# Altium footprint library SRR1260-120M.PcbLib: 1 footprints
Each footprint in its own frame and in the unit in brackets; x right, y up, seen from the top. Pads: shape width x height; smd on the part's side, far side on the other; paste and mask are expansions set on the pad; w line width, h text height; cw(c..) or ccw(c..) is an arc to the next point about the centre after c.
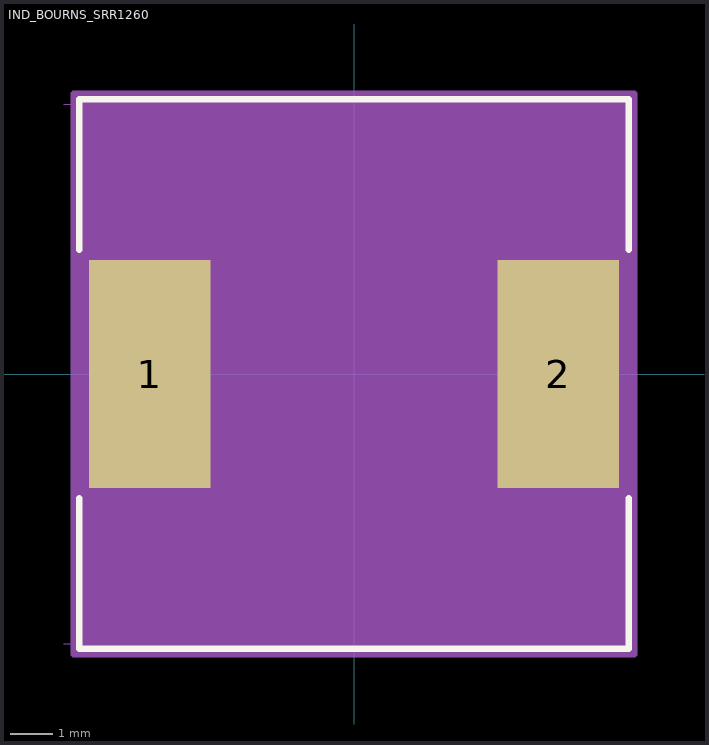
[diagram p0: the footprint, top view; thin cyan lines are the x and y axes]

## IND_BOURNS_SRR1260 [mil]
pads (2):
  rect 114x213 smd paste+0 mask+0: 1(-191,0) 2(191,0)
Top Overlay:
  lines w6: -257,-116.02 -257,-257 257,-257 257,-116.02 ; -257,116.02 -257,257 257,257 257,116.02
Mechanical 7:
  lines w1: -271.5,-252 262,-252 ; -271.5,252 262,252 ; -256.5,-252 -251.5,-242 -261.5,-242 -256.5,-252 ; -256.5,-252 -256.5,252 ; -256.5,252 -251.5,242 -261.5,242 -256.5,252
Mechanical 13:
  lines w1: -252,-252 -252,252 252,252 252,-252 -252,-252
Mechanical 15:
  region: -262,-116.5 -262,116.5 -262,262 262,262 262,116.5 262,-116.5 262,-262 -262,-262
  lines w6: -262,-262 262,-262 262,-116.5 262,116.5 262,262 -262,262 -262,116.5 -262,-116.5 -262,-262
3D body: height 236, standoff 0, extent -260,-260 260,260
3D body: height 10, standoff 0, extent 0,0 10,10